# Altium footprint library ebf EP4CE10 Mini_20200309_PCB库_AD格式.PcbLib: 37 footprints (part 1 of 3)
Each footprint in its own frame and in the unit in brackets; x right, y up, seen from the top. Pads: shape width x height; smd on the part's side, far side on the other; paste and mask are expansions set on the pad; w line width, h text height; cw(c..) or ccw(c..) is an arc to the next point about the centre after c.
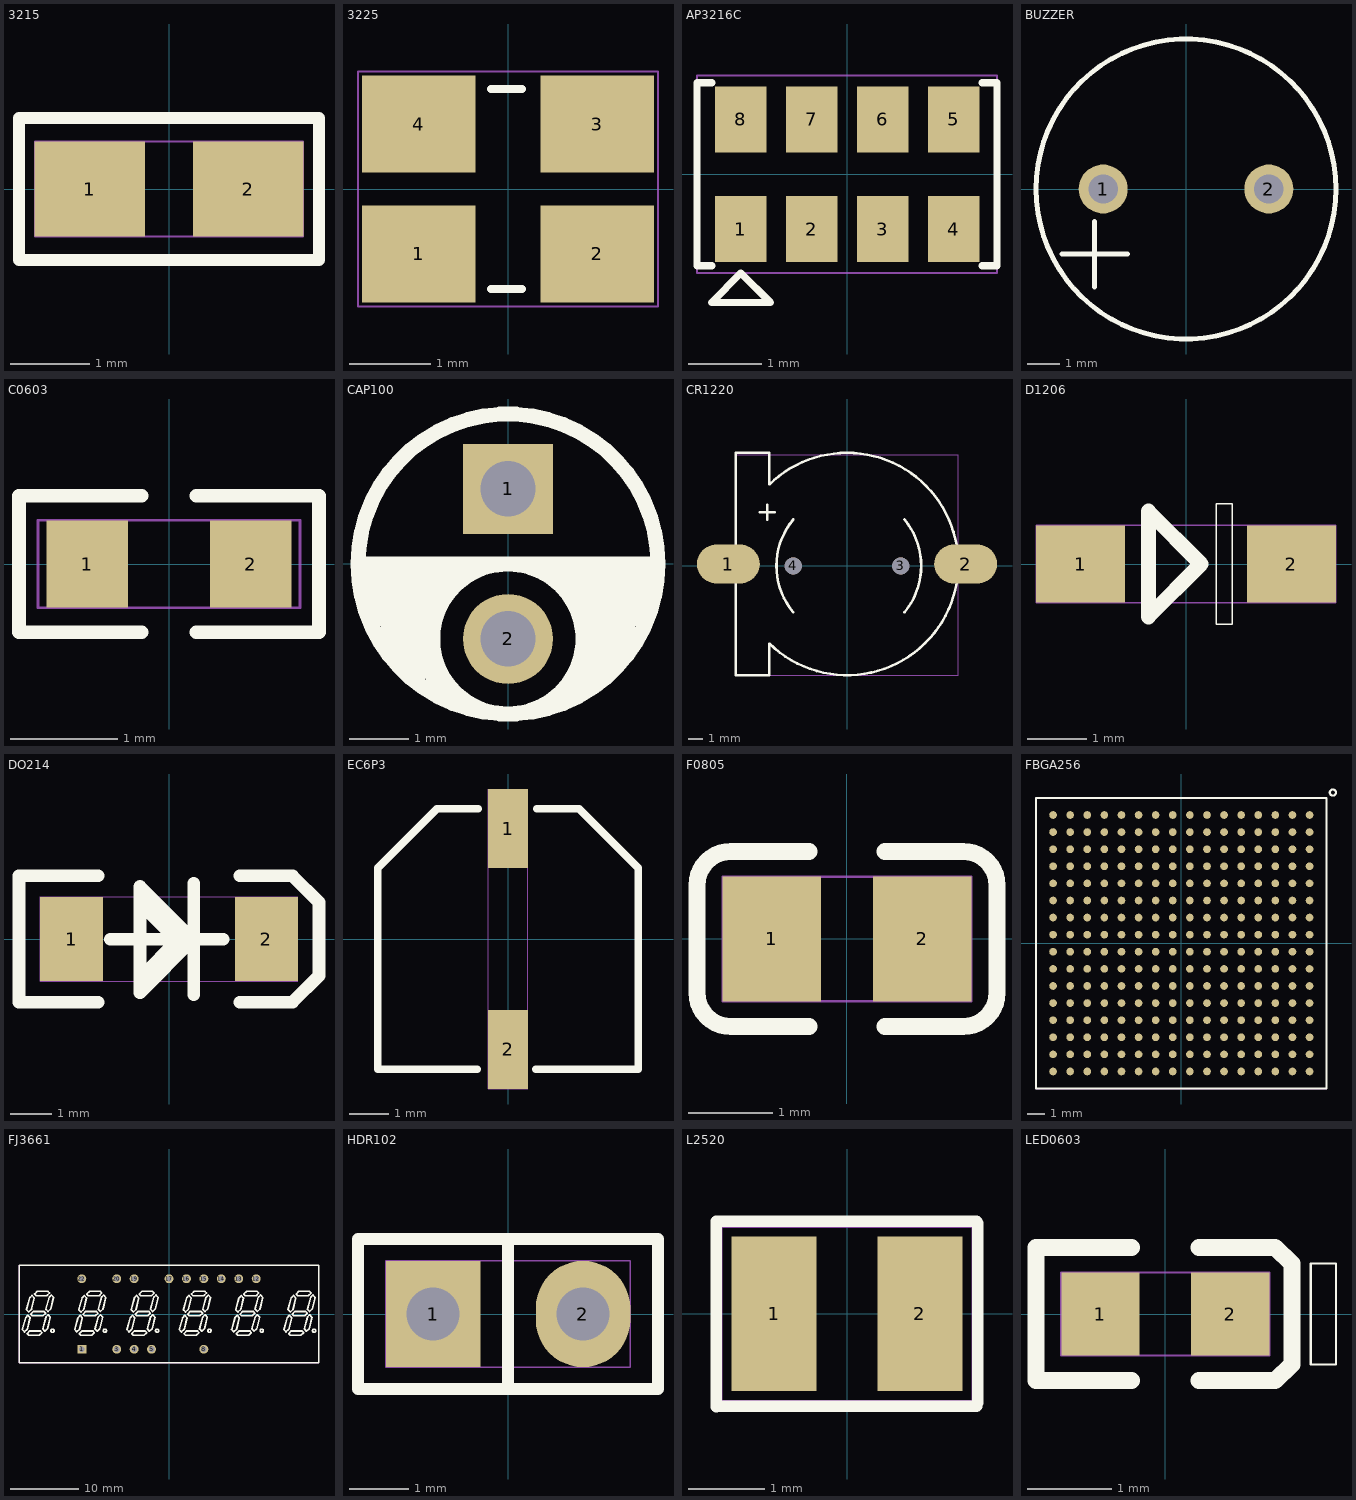
[diagram p0: the footprints below, top view; thin cyan lines are the x and y axes]

## 3215 [mil]
pads (2):
  rect 55.1x47.2 smd mask+2: 1(-39.4,0) 2(39.4,0)
Top Overlay:
  lines w5.9: -74.8,-35.4 74.8,-35.4 74.8,35.4 -74.8,35.4 -74.8,-35.4
Top Assembly:
  text "Y2" at -38.97,-25.04 h50
Mechanical 20:
  lines w1: -66.9,-23.6 -66.9,23.6 66.9,23.6 66.9,-23.6 -66.9,-23.6

## 3225 [mil]
pads (4):
  rect 55.1x47.2 smd mask+2: 1(-43.3,-31.5) 2(43.3,-31.5) 3(43.3,31.5) 4(-43.3,31.5)
Top Overlay:
  lines w3.9: -8.3,-48.5 6.7,-48.5 ; -8.3,48.5 6.7,48.5
Top Assembly:
  text "Y1" at -28.26,-25.04 h50
Mechanical 20:
  lines w1: -72.8,-57.1 72.8,-57.1 72.8,57.1 -72.8,57.1 -72.8,-57.1

## AP3216C [mil]
pads (8):
  rect 27.6x35.4 smd mask+1: 1(-57.3,-29.5) 2(-19.1,-29.5) 3(19.1,-29.5) 4(57.3,-29.5) 5(57.3,29.5) 6(19.1,29.5) 7(-19.1,29.5) 8(-57.3,29.5)
Top Overlay:
  lines w3.9: -73,-49.2 -80.9,-49.2 -80.9,49.2 -73,49.2 ; 72.6,-49.2 80.5,-49.2 80.5,49.2 72.6,49.2 ; -73,-68.9 -41.5,-68.9 -57.3,-53.1 -73,-68.9
Top Assembly:
  text "U8" at -40.28,-25.04 h50
Mechanical 20:
  lines w1: -80.9,-53.1 80.5,-53.1 80.5,53.1 -80.9,53.1 -80.9,-53.1

## BUZZER [mil]
pads (2):
  round 59.1 hole 35.4 mask+2: 1(-100,0) 2(100,0)
Top Overlay:
  circle w6: c0,0 r181.1
  lines w6: -149.6,-78.7 -70.9,-78.7 ; -110.2,-118.1 -110.2,-39.4
Top Assembly:
  text "PZ1" at -50.52,-25.04 h50
Mechanical 20:
  circle w1: c0,0 r181.1

## C0603 [mil]
pads (2):
  rect 30x32 smd mask+2.5: 1(-30,0) 2(30,0)
Top Overlay:
  lines w5: -10,-25 -55,-25 -55,25 -10,25 ; 10,-25 55,-25 55,25 10,25
Top Assembly:
  text "C90" at -63.85,-25.04 h50
Mechanical 20:
  lines w1: -48,-16 -48,16 48,16 48,-16 -48,-16

## CAP100 [mil]
pads (2):
  rect 60x60 hole 37 mask+2: 1(0,50)
  round 60 hole 37 mask+2: 2(0,-50)
Top Overlay:
  circle w10: c0,0 r100
  lines w10: -100,0 100,0 ; -90,-40 -90,0 ; -80,-60 -80,-5 ; -70,-70 -70,-5 ; -60,-75 -60,-5 ; -50,-85 -50,0 ; -45,-85 -45,-80 ; -40,-20 -40,0 ; -30,-10 -30,0 ; 35,-10 35,-5 ; 40,-20 40,-5 ; 45,-85 45,-80 ; 50,-85 50,-5 ; 60,-80 60,-5 ; 70,-70 70,-5 ; 80,-60 80,-5 ; 90,-40 90,-5 ; 0,-100 ccw(c0,-50) 0,0 ccw(c-0.26,-50) 0,-100
Top Assembly:
  text "C6" at -40.4,-25.04 h50
Mechanical 20:
  circle w1: c0,0 r100

## CR1220 [mil]
pads (4):
  oval 169.3x106.3 smd mask+1.95: 1(-320,5) 2(320,5)
  round 46 hole 46 unplated mask+2: 3(145,0) 4(-145,0)
Top Overlay:
  lines w7: -235,145 -195,145 ; -215,125 -215,165 ; -209.6,-209.6 -210,-295 -300,-295 -300,5 -300,305 -210,305 -209.6,219.6 ; -209.51,-209.69 ccw(c0.01,5.01) 298.19,-27.91 ; -209.46,219.73 cw(c0,5.09) 0,305 cw(c0,5) 298.19,37.92 ; -145.25,-124.74 cw(c4.99,-0.01) -145.03,124.98 ; 155.02,-124.98 ccw(c5,0.01) 155.02,125
Top Assembly:
  text "CN1" at -54.44,-25.04 h50
Mechanical 20:
  lines w1: -300,-295 -300,300 300,300 300,-295 -300,-295

## D1206 [mil]
pads (2):
  rect 59.1x51.2 smd mask+2: 1(-70,0) 2(70,0)
Top Overlay:
  lines w1: 20,-40 20,40 30.7,40 30.7,-40 20,-40
  lines w10: -25,-35 10,0 -25,35 -25,-35
Top Assembly:
  text "D6" at -37.78,-25.04 h50
Mechanical 20:
  lines w1: -99.5,-25.6 99.5,-25.6 99.5,25.6 -99.5,25.6 -99.5,-25.6

## DO214 [mil]
pads (2):
  rect 60x80 smd mask+2: 1(-92.5,0) 2(92.5,0)
Top Overlay:
  lines w1: -27.6,-25.1 -27.6,22.9 -1.5,22.9 -1.5,-25.1 -27.6,-25.1
  lines w12: -67.5,-60 -142.5,-60 -142.5,60 -67.5,60 ; -55.6,-0.1 51.4,-0.1 ; -27.6,33.9 7.8,-1.5 -25.8,-35.1 ; 23.4,-53.1 23.4,52.9 ; 67.5,-60 117.4,-60 142.5,-34.9 142.5,34.9 117.4,60 67.5,60 ; -27.6,-51.1 23.4,-0.1 23.4,-1.1 -27.6,49.9 -27.6,-51.1
Top Assembly:
  text "D2" at -38.97,-25.04 h50
Mechanical 20:
  lines w1: -122.5,-40 122.5,-40 122.5,40 -122.5,40 -122.5,-40

## EC6P3 [mil]
pads (2):
  rect 39.4x78.7 smd mask+2: 1(0,110.2) 2(0,-110.2)
Top Overlay:
  lines w7.9: -31,-129.9 -129.9,-129.9 -129.9,70.9 -70.9,129.9 -30,129.9 ; 28,-129.9 129.9,-129.9 129.9,70.9 70.9,129.9 29,129.9
Top Assembly:
  text "C5" at -41.59,-25.04 h50
Mechanical 20:
  lines w1: -19.7,-149.6 19.7,-149.6 19.7,149.6 -19.7,149.6 -19.7,-149.6

## F0805 [mil]
pads (2):
  rect 45.7x57.9 smd mask+2: 1(-35,0) 2(35,0)
Top Overlay:
  lines w7.9: -17.7,-40.7 -53.9,-40.7 cw(c-54,-25) -69.7,-25 -69.7,25 cw(c-54,25) -53.89,40.7 -17.7,40.7 ; 17.7,-40.7 53.9,-40.7 ccw(c54,-25) 69.7,-25 69.7,25 ccw(c54,25) 53.89,40.7 17.7,40.7
Top Assembly:
  text "F1" at -24.33,-25.04 h50
Mechanical 20:
  lines w1: -57.9,-28.9 57.9,-28.9 57.9,28.9 -57.9,28.9 -57.9,-28.9

## FBGA256 [mil]
pads (256):
  round 17.7 smd mask+1.95: A1(295.3,295.3) A2(295.3,255.9) A3(295.3,216.5) A4(295.3,177.2) A5(295.3,137.8) A6(295.3,98.4) A7(295.3,59.1) A8(295.3,19.7) A9(295.3,-19.7) A10(295.3,-59.1) A11(295.3,-98.4) A12(295.3,-137.8) A13(295.3,-177.2) A14(295.3,-216.5) A15(295.3,-255.9) A16(295.3,-295.3) B1(255.9,295.3) B2(255.9,255.9) B3(255.9,216.5) B4(255.9,177.2) B5(255.9,137.8) B6(255.9,98.4) B7(255.9,59.1) B8(255.9,19.7) B9(255.9,-19.7) B10(255.9,-59.1) B11(255.9,-98.4) B12(255.9,-137.8) B13(255.9,-177.2) B14(255.9,-216.5) B15(255.9,-255.9) B16(255.9,-295.3) C1(216.5,295.3) C2(216.5,255.9) C3(216.5,216.5) C4(216.5,177.2) C5(216.5,137.8) C6(216.5,98.4) C7(216.5,59.1) C8(216.5,19.7) C9(216.5,-19.7) C10(216.5,-59.1) C11(216.5,-98.4) C12(216.5,-137.8) C13(216.5,-177.2) C14(216.5,-216.5) C15(216.5,-255.9) C16(216.5,-295.3) D1(177.2,295.3) D2(177.2,255.9) D3(177.2,216.5) D4(177.2,177.2) D5(177.2,137.8) D6(177.2,98.4) D7(177.2,59.1) D8(177.2,19.7) D9(177.2,-19.7) D10(177.2,-59.1) D11(177.2,-98.4) D12(177.2,-137.8) D13(177.2,-177.2) D14(177.2,-216.5) D15(177.2,-255.9) D16(177.2,-295.3) E1(137.8,295.3) E2(137.8,255.9) E3(137.8,216.5) E4(137.8,177.2) E5(137.8,137.8) E6(137.8,98.4) E7(137.8,59.1) E8(137.8,19.7) E9(137.8,-19.7) E10(137.8,-59.1) E11(137.8,-98.4) E12(137.8,-137.8) E13(137.8,-177.2) E14(137.8,-216.5) E15(137.8,-255.9) E16(137.8,-295.3) F1(98.4,295.3) F2(98.4,255.9) F3(98.4,216.5) F4(98.4,177.2) F5(98.4,137.8) F6(98.4,98.4) F7(98.4,59.1) F8(98.4,19.7) F9(98.4,-19.7) F10(98.4,-59.1) F11(98.4,-98.4) F12(98.4,-137.8) F13(98.4,-177.2) F14(98.4,-216.5) F15(98.4,-255.9) F16(98.4,-295.3) G1(59.1,295.3) G2(59.1,255.9) G3(59.1,216.5) G4(59.1,177.2) G5(59.1,137.8) G6(59.1,98.4) G7(59.1,59.1) G8(59.1,19.7) G9(59.1,-19.7) G10(59.1,-59.1) G11(59.1,-98.4) G12(59.1,-137.8) G13(59.1,-177.2) G14(59.1,-216.5) G15(59.1,-255.9) G16(59.1,-295.3) H1(19.7,295.3) H2(19.7,255.9) H3(19.7,216.5) H4(19.7,177.2) H5(19.7,137.8) H6(19.7,98.4) H7(19.7,59.1) H8(19.7,19.7) H9(19.7,-19.7) H10(19.7,-59.1) H11(19.7,-98.4) H12(19.7,-137.8) H13(19.7,-177.2) H14(19.7,-216.5) H15(19.7,-255.9) H16(19.7,-295.3) J1(-19.7,295.3) J2(-19.7,255.9) J3(-19.7,216.5) J4(-19.7,177.2) J5(-19.7,137.8) J6(-19.7,98.4) J7(-19.7,59.1) J8(-19.7,19.7) J9(-19.7,-19.7) J10(-19.7,-59.1) J11(-19.7,-98.4) J12(-19.7,-137.8) J13(-19.7,-177.2) J14(-19.7,-216.5) J15(-19.7,-255.9) J16(-19.7,-295.3) K1(-59.1,295.3) K2(-59.1,255.9) K3(-59.1,216.5) K4(-59.1,177.2) K5(-59.1,137.8) K6(-59.1,98.4) K7(-59.1,59.1) K8(-59.1,19.7) K9(-59.1,-19.7) K10(-59.1,-59.1) K11(-59.1,-98.4) K12(-59.1,-137.8) K13(-59.1,-177.2) K14(-59.1,-216.5) K15(-59.1,-255.9) K16(-59.1,-295.3) L1(-98.4,295.3) L2(-98.4,255.9) L3(-98.4,216.5) L4(-98.4,177.2) L5(-98.4,137.8) L6(-98.4,98.4) L7(-98.4,59.1) L8(-98.4,19.7) L9(-98.4,-19.7) L10(-98.4,-59.1) L11(-98.4,-98.4) L12(-98.4,-137.8) L13(-98.4,-177.2) L14(-98.4,-216.5) L15(-98.4,-255.9) L16(-98.4,-295.3) M1(-137.8,295.3) M2(-137.8,255.9) M3(-137.8,216.5) M4(-137.8,177.2) M5(-137.8,137.8) M6(-137.8,98.4) M7(-137.8,59.1) M8(-137.8,19.7) M9(-137.8,-19.7) M10(-137.8,-59.1) M11(-137.8,-98.4) M12(-137.8,-137.8) M13(-137.8,-177.2) M14(-137.8,-216.5) M15(-137.8,-255.9) M16(-137.8,-295.3) N1(-177.2,295.3) N2(-177.2,255.9) N3(-177.2,216.5) N4(-177.2,177.2) N5(-177.2,137.8) N6(-177.2,98.4) N7(-177.2,59.1) N8(-177.2,19.7) N9(-177.2,-19.7) N10(-177.2,-59.1) N11(-177.2,-98.4) N12(-177.2,-137.8) N13(-177.2,-177.2) N14(-177.2,-216.5) N15(-177.2,-255.9) N16(-177.2,-295.3) P1(-216.5,295.3) P2(-216.5,255.9) P3(-216.5,216.5) P4(-216.5,177.2) P5(-216.5,137.8) P6(-216.5,98.4) P7(-216.5,59.1) P8(-216.5,19.7) P9(-216.5,-19.7) P10(-216.5,-59.1) P11(-216.5,-98.4) P12(-216.5,-137.8) P13(-216.5,-177.2) P14(-216.5,-216.5) P15(-216.5,-255.9) P16(-216.5,-295.3) R1(-255.9,295.3) R2(-255.9,255.9) R3(-255.9,216.5) R4(-255.9,177.2) R5(-255.9,137.8) R6(-255.9,98.4) R7(-255.9,59.1) R8(-255.9,19.7) R9(-255.9,-19.7) R10(-255.9,-59.1) R11(-255.9,-98.4) R12(-255.9,-137.8) R13(-255.9,-177.2) R14(-255.9,-216.5) R15(-255.9,-255.9) R16(-255.9,-295.3) T1(-295.3,295.3) T2(-295.3,255.9) T3(-295.3,216.5) T4(-295.3,177.2) T5(-295.3,137.8) T6(-295.3,98.4) T7(-295.3,59.1) T8(-295.3,19.7) T9(-295.3,-19.7) T10(-295.3,-59.1) T11(-295.3,-98.4) T12(-295.3,-137.8) T13(-295.3,-177.2) T14(-295.3,-216.5) T15(-295.3,-255.9) T16(-295.3,-295.3)
Top Overlay:
  circle w5: c349.08,346.92 r7.12
  lines w1: -334.6,-334.6 -334.6,334.6 ; -334.6,-334.6 334.6,-334.6 ; -334.6,-334.6 -334.6,334.6 ; -334.6,-334.6 334.6,-334.6 ; -334.6,334.6 334.6,334.6 ; -334.6,334.6 334.6,334.6 ; 334.6,-334.6 334.6,334.6 ; 334.6,-334.6 334.6,334.6
  lines w5: -334.6,-334.6 -334.6,334.6 334.6,334.6 334.6,-334.6 -334.6,-334.6
Top Assembly:
  text "U4" at -41.47,-25.04 h50
Mechanical 20:
  lines w1: -334.6,-334.6 334.6,-334.6 334.6,334.6 -334.6,334.6 -334.6,-334.6

## FJ3661 [mil]
pads (14):
  rect 51.2x51.2 hole 31.5 mask+1.95: 1(-500,-202)
  round 51.2 hole 31.5 mask+1.95: 3(-300,-202) 4(-200,-202) 5(-100,-202) 8(200,-202) 12(500,202) 13(400,202) 14(300,202) 15(200,202) 16(100,202) 17(0,202) 19(-200,202) 20(-300,202) 22(-500,202)
Top Overlay:
  drawing of 280 lines, arcs and shapes, not listed
Top Assembly:
  text "U13" at -58.61,-25.04 h50
Mechanical 20:
  lines w1: -860.2,-279.5 860.2,-279.5 860.2,279.5 -860.2,279.5 -860.2,-279.5

## HDR102 [mil]
pads (2):
  rect 63x70.9 / inner oval 63x70.9 / far side rect 63x70.9 hole 35.4 mask+1.95: 1(-50,0)
  oval 63x70.9 hole 35.4 mask+1.95: 2(50,0)
Top Overlay:
  lines w8: 0,-50 0,50 ; -100,-50 100,-50 100,50 -100,50 -100,-50
Top Assembly:
  text "J11" at -42.66,-25.04 h50
Mechanical 20:
  lines w1: -81.5,-35.4 81.5,-35.4 81.5,35.4 -81.5,35.4 -81.5,-35.4

## L2520 [mil]
pads (2):
  rect 44x80 smd mask+2: 1(-37.7,0) 2(37.7,0)
Top Overlay:
  lines w6: -67.7,-48.1 -67.7,48 ; -67.7,47.9 67.1,47.9 ; -65.7,-47.9 67.1,-47.9 ; 67.7,-46.1 67.7,47
Top Assembly:
  text "L3" at -33.73,-25.04 h50
Mechanical 20:
  lines w1: -65,-45 -65,45 65,45 65,-45 -65,-45

## LED0603 [mil]
pads (2):
  rect 36.6x38.6 smd mask+1.95: 1(-30.3,0) 2(30.3,0)
Top Overlay:
  lines w1: 67.9,-23.6 67.9,23.6 79.7,23.6 79.7,-23.6 67.9,-23.6
  lines w7.9: -15.7,-31.1 -60.4,-31.1 -60.4,31.1 -15.7,31.1 ; 15.7,-31.1 51.2,-31.1 59.1,-23.5 59.1,23.5 51.2,31.1 15.7,31.1
Top Assembly:
  text "D9" at -37.78,-25.04 h50
Mechanical 20:
  lines w1: -48.6,-19.3 48.6,-19.3 48.6,19.3 -48.6,19.3 -48.6,-19.3